# Altium footprint library Low_PWR.PcbLib: 51 footprints (part 1 of 4)
Each footprint in its own frame and in the unit in brackets; x right, y up, seen from the top. Pads: shape width x height; smd on the part's side, far side on the other; paste and mask are expansions set on the pad; w line width, h text height; cw(c..) or ccw(c..) is an arc to the next point about the centre after c.
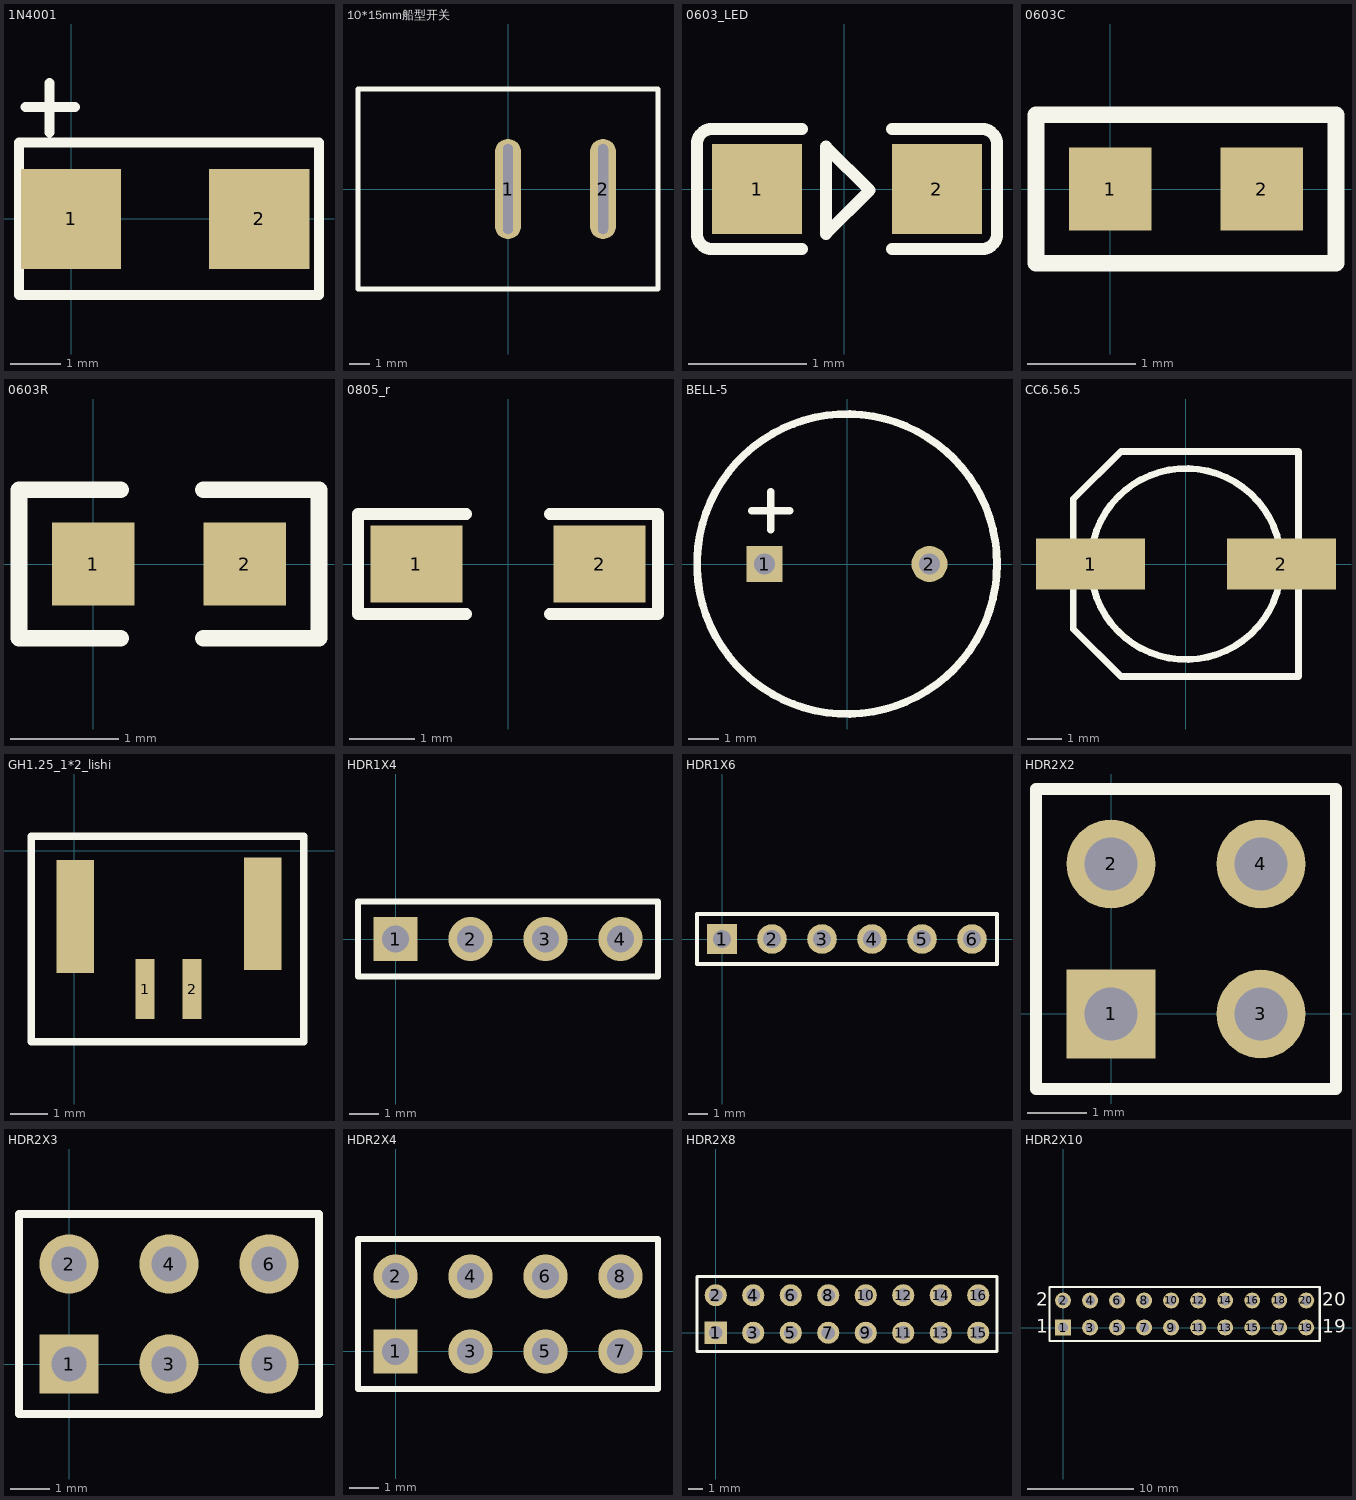
[diagram p0: the footprints below, top view; thin cyan lines are the x and y axes]

## 1N4001 [mm]
pads (2):
  rect 2x2 smd: 1(0,0) 2(3.76,0)
Top Overlay:
  lines w0.2: -0.914,2.235 0.076,2.235 ; -0.432,1.727 -0.432,2.718 ; -1.041,-1.524 4.953,-1.524 4.953,1.524 -1.041,1.524 -1.041,-1.524

## 10*15mm船型开关 [mm]
pads (2):
  oval 1.3x5 hole 0.5 slot 4.5 at 90 deg: 1(0,0) 2(4.75,0)
Top Overlay:
  lines w0.254: -7.5,-5 7.5,-5 7.5,5 -7.5,5 -7.5,-5

## 0603_LED [mil]
pads (2):
  rect 30x30 smd: 1(-29,0) 2(31,0)
Top Overlay:
  lines w3.94: -6.02,-15 -6.02,14.13 8.54,-0.43 -6.02,-15
  lines w4: -14,-20 -44,-20 cw(c-44,-15) -49,-15 -49,15 cw(c-44,15) -44,20 -14,20 ; 16,-20 46,-20 ccw(c46,-15) 51,-15 51,15 ccw(c46,15) 46,20 16,20
3D body "led0805  green.step": height 43.31, standoff -0.5, extent -40,-25 40,25

## 0603C [mil]
pads (2):
  rect 30x30 smd: 1(0,0) 2(55,0)
Top Overlay:
  lines w6: 81,27 -27,27 -27,-27 82,-27 82,27
3D body "User Library-0603 SMD Capacitor.step": height 12.49, standoff 0.6, extent -4.49,-15.75 58.51,15.75

## 0603R [mil]
pads (2):
  rect 30x30 smd: 1(0,0) 2(55,0)
Top Overlay:
  lines w6: 10,-27 -27,-27 -27,27 10,27 ; 40,-27 82,-27 82,27 40,27
3D body "User Library-RESC1608X05N.step": height 17.76, standoff 0, extent -3.51,-17.73 57.51,15.73

## 0805_r [mil]
pads (2):
  rect 55.12x46 smd: 1(-55,0) 2(55,0)
Top Overlay:
  lines w7: -25,-30 -90,-30 -90,30 -25,30 ; 25,-30 90,-30 90,30 25,30
3D body "R0805.STEP": height 21.65, standoff 0, extent -39.36,-24.8 39.38,24.81

## BELL-5 [mm]
height 1.75
pads (2):
  rect 1.2x1.2 hole 0.7: 1(-2.75,0)
  round 1.2 hole 0.7: 2(2.75,0)
Top Overlay:
  circle w0.254: c0,0 r5
  lines w0.254: -3.175,1.778 -1.905,1.778 ; -2.54,1.143 -2.54,2.413

## CC6.56.5 [mm] "SMD;W:6.5mm;L:6.5mm;"
height 5.5
pads (2):
  rect 3.2x1.5 smd: 1(-2.794,0) 2(2.8,0)
Top Overlay:
  circle w0.2: c0,0 r2.8
  lines w0.2: -3.302,-1.905 -1.905,-3.302 3.302,-3.302 3.302,3.302 -1.905,3.302 -3.302,1.905 -3.302,-1.905

## GH1.25_1*2_lishi [mm]
pads (4):
  rect 0.5x1.6 smd: 1(1.88,-3.683) 2(3.13,-3.683)
  rect 1x3 smd: ""(0.025,-1.753) ""(5.004,-1.676)
Top Overlay:
  lines w0.2: -1.143,-5.08 6.096,-5.08 6.096,0.381 -1.143,0.381 -1.143,-5.08

## HDR1X4 [mm] "Connector; Header; 4 Position"
height 1
pads (4):
  rect 1.5x1.5 hole 0.9: 1(0,0)
  round 1.5 hole 0.9: 2(2.54,0) 3(5.08,0) 4(7.62,0)
Top Overlay:
  lines w0.2: -1.27,-1.27 8.89,-1.27 8.89,1.27 -1.27,1.27 -1.27,-1.27
3D body "1001-4.STEP": height 8.54, standoff -3, extent -1.263,-1.267 8.897,1.273

## HDR1X6 [mm] "Connector; Header; 6 Position"
pads (6):
  rect 1.5x1.5 hole 0.9: 1(0,0)
  round 1.5 hole 0.9: 2(2.54,0) 3(5.08,0) 4(7.62,0) 5(10.16,0) 6(12.7,0)
Top Overlay:
  lines w0.2: -1.27,-1.27 -1.27,1.27 13.97,1.27 13.97,-1.27 -1.27,-1.27
3D body "HEADER.STEP": height 7.58, standoff -2.94, extent 11.43,-1.27 13.97,1.27
3D body "HEADER.STEP": height 7.58, standoff -2.94, extent 8.89,-1.27 11.43,1.27
3D body "HEADER.STEP": height 7.58, standoff -2.94, extent 6.35,-1.27 8.89,1.27
3D body "HEADER.STEP": height 7.58, standoff -2.94, extent 3.81,-1.27 6.35,1.27
3D body "HEADER.STEP": height 7.58, standoff -2.94, extent 1.27,-1.27 3.81,1.27
3D body "HEADER.STEP": height 7.58, standoff -2.94, extent -1.27,-1.27 1.27,1.27

## HDR2X2 [mm] "Connector; Header; 2x2 Position"
pads (4):
  rect 1.5x1.5 hole 0.9: 1(0,0)
  round 1.5 hole 0.9: 2(0,2.54) 3(2.54,0) 4(2.54,2.54)
Top Overlay:
  lines w0.2: -1.27,-1.27 3.81,-1.27 3.81,3.81 -1.27,3.81 -1.27,-1.27
3D body "HEADER.STEP": height 7.58, standoff -2.94, extent 1.27,1.27 3.81,3.81
3D body "HEADER.STEP": height 7.58, standoff -2.94, extent -1.27,1.27 1.27,3.81
3D body "HEADER.STEP": height 7.58, standoff -2.94, extent 1.27,-1.27 3.81,1.27
3D body "HEADER.STEP": height 7.58, standoff -2.94, extent -1.27,-1.27 1.27,1.27

## HDR2X3 [mm] "Connector; Header; 3x2 Position"
pads (6):
  rect 1.5x1.5 hole 0.9: 1(0,0)
  round 1.5 hole 0.9: 2(0,2.54) 3(2.54,0) 4(2.54,2.54) 5(5.08,0) 6(5.08,2.54)
Top Overlay:
  lines w0.2: 1.482,-1.27 6.35,-1.27 ; 6.35,-1.27 6.35,3.81 -1.27,3.81 -1.27,-1.27 6.35,-1.27
3D body "HEADER.STEP": height 7.58, standoff -2.94, extent 1.27,1.27 3.81,3.81
3D body "HEADER.STEP": height 7.58, standoff -2.94, extent -1.27,1.27 1.27,3.81
3D body "HEADER.STEP": height 7.58, standoff -2.94, extent 1.27,-1.27 3.81,1.27
3D body "HEADER.STEP": height 7.58, standoff -2.94, extent -1.27,-1.27 1.27,1.27
3D body "HEADER.STEP": height 7.58, standoff -2.94, extent 3.81,-1.27 6.35,1.27
3D body "HEADER.STEP": height 7.58, standoff -2.94, extent 3.81,1.27 6.35,3.81

## HDR2X4 [mm] "Connector; Header; 4x2 Position"
pads (8):
  rect 1.5x1.5 hole 0.9: 1(0,0)
  round 1.5 hole 0.9: 2(0,2.54) 3(2.54,0) 4(2.54,2.54) 5(5.08,0) 6(5.08,2.54) 7(7.62,0) 8(7.62,2.54)
Top Overlay:
  lines w0.2: -1.27,-1.27 -1.27,3.81 8.89,3.81 8.89,-1.27 -1.27,-1.27
3D body "HEADER.STEP": height 7.58, standoff -2.94, extent 6.35,1.27 8.89,3.81
3D body "HEADER.STEP": height 7.58, standoff -2.94, extent 6.35,-1.27 8.89,1.27
3D body "HEADER.STEP": height 7.58, standoff -2.94, extent 1.27,1.27 3.81,3.81
3D body "HEADER.STEP": height 7.58, standoff -2.94, extent -1.27,1.27 1.27,3.81
3D body "HEADER.STEP": height 7.58, standoff -2.94, extent 1.27,-1.27 3.81,1.27
3D body "HEADER.STEP": height 7.58, standoff -2.94, extent -1.27,-1.27 1.27,1.27
3D body "HEADER.STEP": height 7.58, standoff -2.94, extent 3.81,-1.27 6.35,1.27
3D body "HEADER.STEP": height 7.58, standoff -2.94, extent 3.81,1.27 6.35,3.81

## HDR2X8 [mm] "Connector; Header; 8x2 Position"
pads (16):
  rect 1.5x1.5 hole 0.9: 1(0,0)
  round 1.5 hole 0.9: 2(0,2.54) 3(2.54,0) 4(2.54,2.54) 5(5.08,0) 6(5.08,2.54) 7(7.62,0) 8(7.62,2.54) 9(10.16,0) 10(10.16,2.54) 11(12.7,0) 12(12.7,2.54) 13(15.24,0) 14(15.24,2.54) 15(17.78,0) 16(17.78,2.54)
Top Overlay:
  lines w0.2: -1.27,-1.27 19.05,-1.27 19.05,3.81 -1.27,3.81 -1.27,-1.27
3D body "HEADER.STEP": height 7.58, standoff -2.94, extent 16.51,1.27 19.05,3.81
3D body "HEADER.STEP": height 7.58, standoff -2.94, extent 16.51,-1.27 19.05,1.27
3D body "HEADER.STEP": height 7.58, standoff -2.94, extent 13.97,1.27 16.51,3.81
3D body "HEADER.STEP": height 7.58, standoff -2.94, extent 13.97,-1.27 16.51,1.27
3D body "HEADER.STEP": height 7.58, standoff -2.94, extent 11.43,1.27 13.97,3.81
3D body "HEADER.STEP": height 7.58, standoff -2.94, extent 11.43,-1.27 13.97,1.27
3D body "HEADER.STEP": height 7.58, standoff -2.94, extent 8.89,1.27 11.43,3.81
3D body "HEADER.STEP": height 7.58, standoff -2.94, extent 8.89,-1.27 11.43,1.27
3D body "HEADER.STEP": height 7.58, standoff -2.94, extent 6.35,1.27 8.89,3.81
3D body "HEADER.STEP": height 7.58, standoff -2.94, extent 6.35,-1.27 8.89,1.27
3D body "HEADER.STEP": height 7.58, standoff -2.94, extent 3.81,1.27 6.35,3.81
3D body "HEADER.STEP": height 7.58, standoff -2.94, extent 3.81,-1.27 6.35,1.27
3D body "HEADER.STEP": height 7.58, standoff -2.94, extent 1.27,1.27 3.81,3.81
3D body "HEADER.STEP": height 7.58, standoff -2.94, extent 1.27,-1.27 3.81,1.27
3D body "HEADER.STEP": height 7.58, standoff -2.94, extent -1.27,1.27 1.27,3.81
3D body "HEADER.STEP": height 7.58, standoff -2.94, extent -1.27,-1.27 1.27,1.27

## HDR2X10 [mm] "Connector; Header; 10x2 Position"
pads (20):
  rect 1.5x1.5 hole 0.9: 1(0,0)
  round 1.5 hole 0.9: 2(0,2.54) 3(2.54,0) 4(2.54,2.54) 5(5.08,0) 6(5.08,2.54) 7(7.62,0) 8(7.62,2.54) 9(10.16,0) 10(10.16,2.54) 11(12.7,0) 12(12.7,2.54) 13(15.24,0) 14(15.24,2.54) 15(17.78,0) 16(17.78,2.54) 17(20.32,0) 18(20.32,2.54) 19(22.86,0) 20(22.86,2.54)
Top Overlay:
  lines w0.2: -1.27,-1.27 -1.27,3.81 0.635,3.81 24.13,3.81 24.13,-1.27 0.635,-1.27 -1.27,-1.27
  text "2" at -2.54,2.032 h1.27
  text "1" at -2.54,-0.508 h1.27
  text "19" at 24.384,-0.508 h1.27
  text "20" at 24.384,2.032 h1.27
3D body "HDR2x10.STEP": height 8.54, standoff -3, extent -1.27,-1.27 24.13,3.81